# Altium schematic symbol library SCH - MCU - STM32 - ST MICROELECTRONICS STM32L496VGTXP LQFP100.SchLib: 1 symbol
Pins are listed as number, name and electrical type; pins without a type are passive.

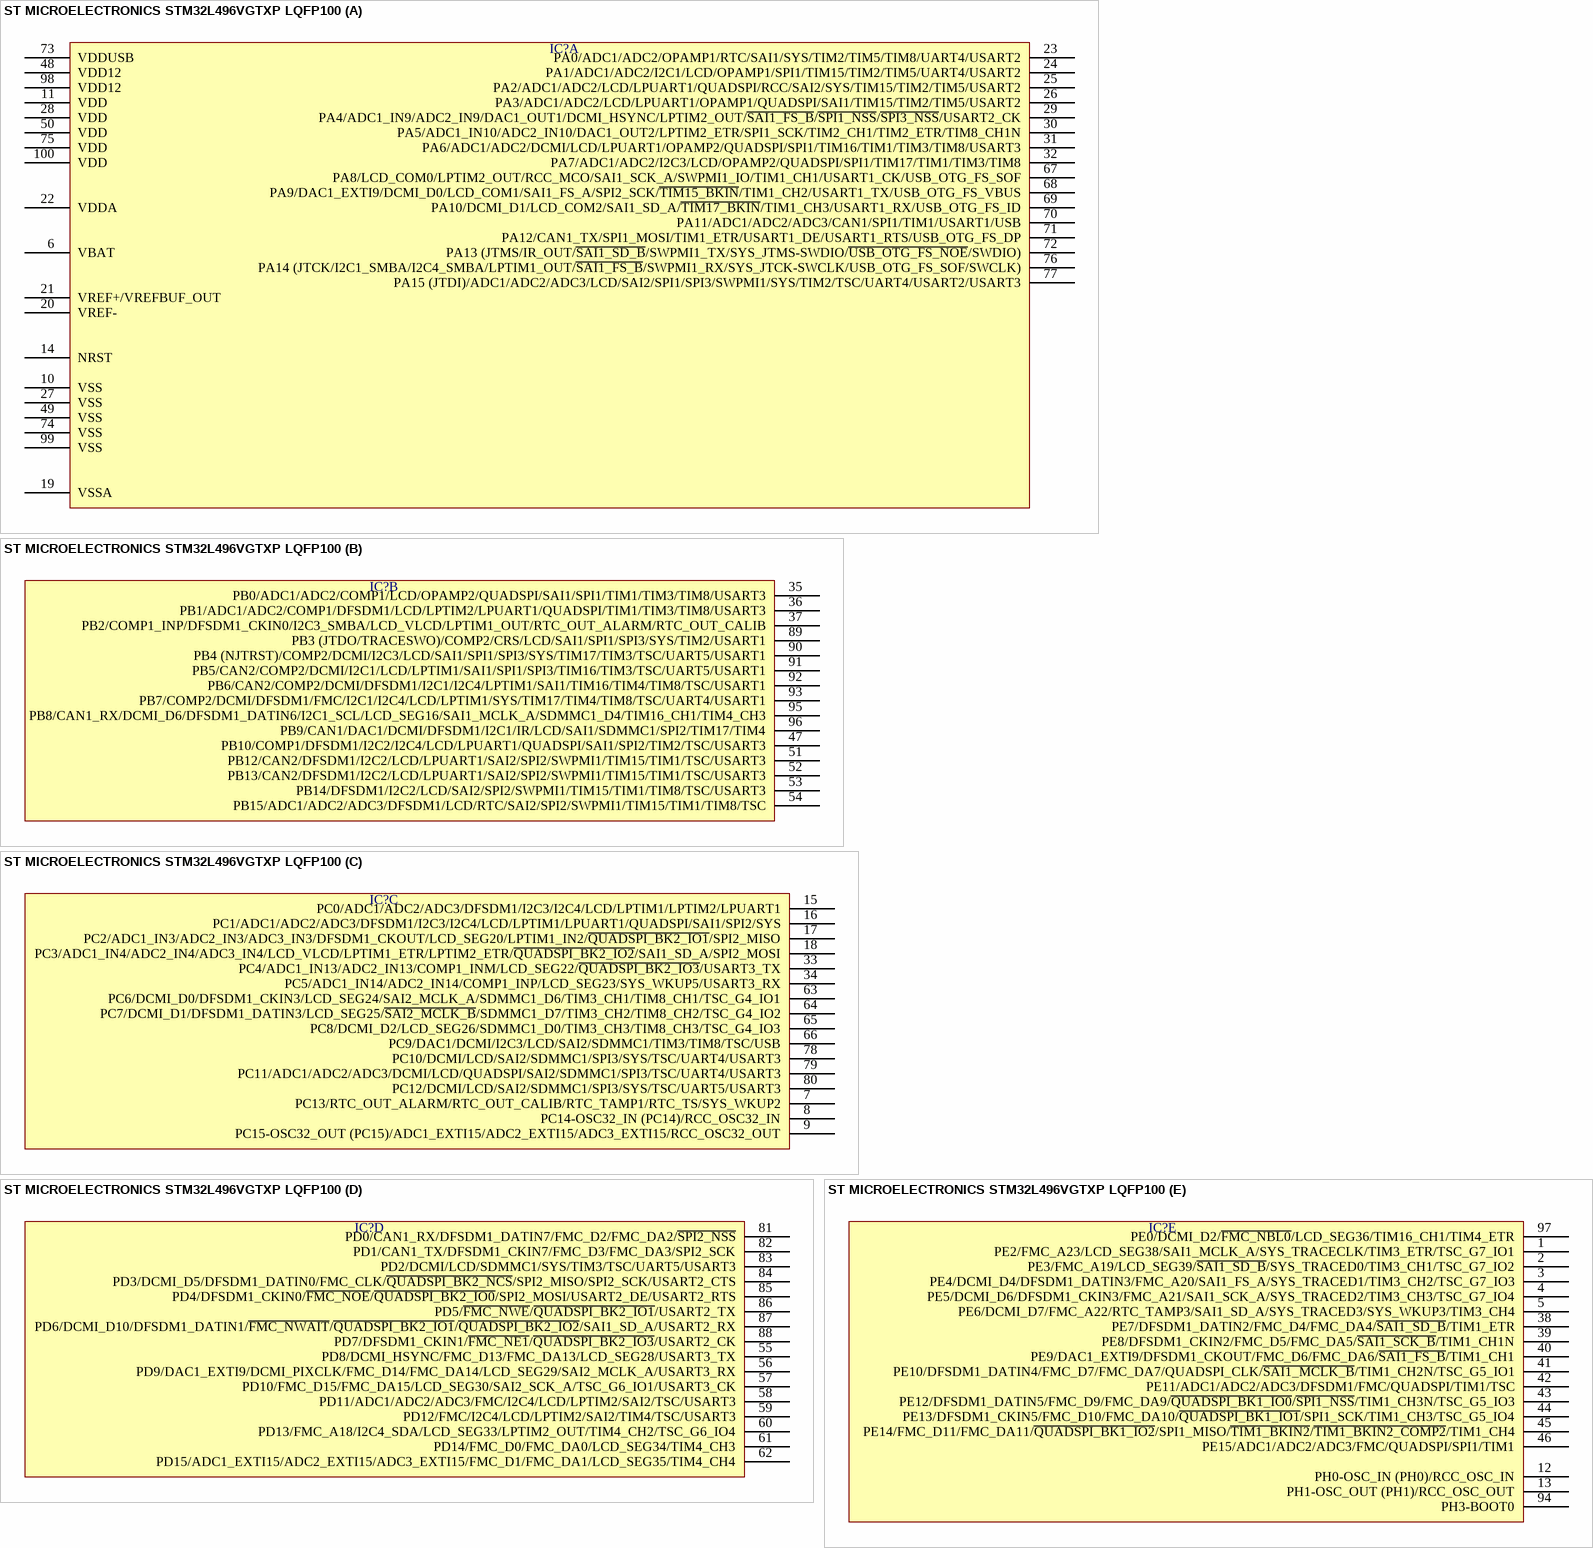
[diagram p0: symbol ST MICROELECTRONICS STM32L496VGTXP LQFP100]

## ST MICROELECTRONICS STM32L496VGTXP LQFP100
designator IC?  (value not drawn)
part A pins: 6 VBAT, 10 VSS, 11 VDD, 14 NRST, 19 VSSA, 20 VREF-, 21 VREF+/VREFBUF_OUT, 22 VDDA, 23 PA0/ADC1/ADC2/OPAMP1/RTC/SAI1/SYS/TIM2/TIM5/TIM8/UART4/USART2, 24 PA1/ADC1/ADC2/I2C1/LCD/OPAMP1/SPI1/TIM15/TIM2/TIM5/UART4/USART2, 25 PA2/ADC1/ADC2/LCD/LPUART1/QUADSPI/RCC/SAI2/SYS/TIM15/TIM2/TIM5/USART2, 26 PA3/ADC1/ADC2/LCD/LPUART1/OPAMP1/QUADSPI/SAI1/TIM15/TIM2/TIM5/USART2, 27 VSS, 28 VDD, 29 PA4/ADC1_IN9/ADC2_IN9/DAC1_OUT1/DCMI_HSYNC/LPTIM2_OUT/~{SAI1_FS_B}/~{SPI1_NSS}/~{SPI3_NSS}/USART2_CK, 30 PA5/ADC1_IN10/ADC2_IN10/DAC1_OUT2/LPTIM2_ETR/SPI1_SCK/TIM2_CH1/TIM2_ETR/TIM8_CH1N, 31 PA6/ADC1/ADC2/DCMI/LCD/LPUART1/OPAMP2/QUADSPI/SPI1/TIM16/TIM1/TIM3/TIM8/USART3, 32 PA7/ADC1/ADC2/I2C3/LCD/OPAMP2/QUADSPI/SPI1/TIM17/TIM1/TIM3/TIM8, 48 VDD12, 49 VSS, 50 VDD, 67 PA8/LCD_COM0/LPTIM2_OUT/RCC_MCO/SAI1_SCK_A/SWPMI1_IO/TIM1_CH1/USART1_CK/USB_OTG_FS_SOF, 68 PA9/DAC1_EXTI9/DCMI_D0/LCD_COM1/SAI1_FS_A/SPI2_SCK/~{TIM15_BKIN}/TIM1_CH2/USART1_TX/USB_OTG_FS_VBUS, 69 PA10/DCMI_D1/LCD_COM2/SAI1_SD_A/~{TIM17_BKIN}/TIM1_CH3/USART1_RX/USB_OTG_FS_ID, 70 PA11/ADC1/ADC2/ADC3/CAN1/SPI1/TIM1/USART1/USB, 71 PA12/CAN1_TX/SPI1_MOSI/TIM1_ETR/USART1_DE/USART1_RTS/USB_OTG_FS_DP, 72 PA13 (JTMS/IR_OUT/~{SAI1_SD_B}/SWPMI1_TX/SYS_JTMS-SWDIO/~{USB_OTG_FS_NOE}/SWDIO), 73 VDDUSB, 74 VSS, 75 VDD, 76 PA14 (JTCK/I2C1_SMBA/I2C4_SMBA/LPTIM1_OUT/~{SAI1_FS_B}/SWPMI1_RX/SYS_JTCK-SWCLK/USB_OTG_FS_SOF/SWCLK), 77 PA15 (JTDI)/ADC1/ADC2/ADC3/LCD/SAI2/SPI1/SPI3/SWPMI1/SYS/TIM2/TSC/UART4/USART2/USART3, 98 VDD12, 99 VSS, 100 VDD
part B pins: 35 PB0/ADC1/ADC2/COMP1/LCD/OPAMP2/QUADSPI/SAI1/SPI1/TIM1/TIM3/TIM8/USART3, 36 PB1/ADC1/ADC2/COMP1/DFSDM1/LCD/LPTIM2/LPUART1/QUADSPI/TIM1/TIM3/TIM8/USART3, 37 PB2/COMP1_INP/DFSDM1_CKIN0/I2C3_SMBA/LCD_VLCD/LPTIM1_OUT/RTC_OUT_ALARM/RTC_OUT_CALIB, 47 PB10/COMP1/DFSDM1/I2C2/I2C4/LCD/LPUART1/QUADSPI/SAI1/SPI2/TIM2/TSC/USART3, 51 PB12/CAN2/DFSDM1/I2C2/LCD/LPUART1/SAI2/SPI2/SWPMI1/TIM15/TIM1/TSC/USART3, 52 PB13/CAN2/DFSDM1/I2C2/LCD/LPUART1/SAI2/SPI2/SWPMI1/TIM15/TIM1/TSC/USART3, 53 PB14/DFSDM1/I2C2/LCD/SAI2/SPI2/SWPMI1/TIM15/TIM1/TIM8/TSC/USART3, 54 PB15/ADC1/ADC2/ADC3/DFSDM1/LCD/RTC/SAI2/SPI2/SWPMI1/TIM15/TIM1/TIM8/TSC, 89 PB3 (JTDO/TRACESWO)/COMP2/CRS/LCD/SAI1/SPI1/SPI3/SYS/TIM2/USART1, 90 PB4 (NJTRST)/COMP2/DCMI/I2C3/LCD/SAI1/SPI1/SPI3/SYS/TIM17/TIM3/TSC/UART5/USART1, 91 PB5/CAN2/COMP2/DCMI/I2C1/LCD/LPTIM1/SAI1/SPI1/SPI3/TIM16/TIM3/TSC/UART5/USART1, 92 PB6/CAN2/COMP2/DCMI/DFSDM1/I2C1/I2C4/LPTIM1/SAI1/TIM16/TIM4/TIM8/TSC/USART1, 93 PB7/COMP2/DCMI/DFSDM1/FMC/I2C1/I2C4/LCD/LPTIM1/SYS/TIM17/TIM4/TIM8/TSC/UART4/USART1, 95 PB8/CAN1_RX/DCMI_D6/DFSDM1_DATIN6/I2C1_SCL/LCD_SEG16/SAI1_MCLK_A/SDMMC1_D4/TIM16_CH1/TIM4_CH3, 96 PB9/CAN1/DAC1/DCMI/DFSDM1/I2C1/IR/LCD/SAI1/SDMMC1/SPI2/TIM17/TIM4
part C pins: 7 PC13/RTC_OUT_ALARM/RTC_OUT_CALIB/RTC_TAMP1/RTC_TS/SYS_WKUP2, 8 PC14-OSC32_IN (PC14)/RCC_OSC32_IN, 9 PC15-OSC32_OUT (PC15)/ADC1_EXTI15/ADC2_EXTI15/ADC3_EXTI15/RCC_OSC32_OUT, 15 PC0/ADC1/ADC2/ADC3/DFSDM1/I2C3/I2C4/LCD/LPTIM1/LPTIM2/LPUART1, 16 PC1/ADC1/ADC2/ADC3/DFSDM1/I2C3/I2C4/LCD/LPTIM1/LPUART1/QUADSPI/SAI1/SPI2/SYS, 17 PC2/ADC1_IN3/ADC2_IN3/ADC3_IN3/DFSDM1_CKOUT/LCD_SEG20/LPTIM1_IN2/~{QUADSPI_BK2_IO1}/SPI2_MISO, 18 PC3/ADC1_IN4/ADC2_IN4/ADC3_IN4/LCD_VLCD/LPTIM1_ETR/LPTIM2_ETR/~{QUADSPI_BK2_IO2}/SAI1_SD_A/SPI2_MOSI, 33 PC4/ADC1_IN13/ADC2_IN13/COMP1_INM/LCD_SEG22/~{QUADSPI_BK2_IO3}/USART3_TX, 34 PC5/ADC1_IN14/ADC2_IN14/COMP1_INP/LCD_SEG23/SYS_WKUP5/USART3_RX, 63 PC6/DCMI_D0/DFSDM1_CKIN3/LCD_SEG24/SAI2_MCLK_A/SDMMC1_D6/TIM3_CH1/TIM8_CH1/TSC_G4_IO1, 64 PC7/DCMI_D1/DFSDM1_DATIN3/LCD_SEG25/~{SAI2_MCLK_B}/SDMMC1_D7/TIM3_CH2/TIM8_CH2/TSC_G4_IO2, 65 PC8/DCMI_D2/LCD_SEG26/SDMMC1_D0/TIM3_CH3/TIM8_CH3/TSC_G4_IO3, 66 PC9/DAC1/DCMI/I2C3/LCD/SAI2/SDMMC1/TIM3/TIM8/TSC/USB, 78 PC10/DCMI/LCD/SAI2/SDMMC1/SPI3/SYS/TSC/UART4/USART3, 79 PC11/ADC1/ADC2/ADC3/DCMI/LCD/QUADSPI/SAI2/SDMMC1/SPI3/TSC/UART4/USART3, 80 PC12/DCMI/LCD/SAI2/SDMMC1/SPI3/SYS/TSC/UART5/USART3
part D pins: 55 PD8/DCMI_HSYNC/FMC_D13/FMC_DA13/LCD_SEG28/USART3_TX, 56 PD9/DAC1_EXTI9/DCMI_PIXCLK/FMC_D14/FMC_DA14/LCD_SEG29/SAI2_MCLK_A/USART3_RX, 57 PD10/FMC_D15/FMC_DA15/LCD_SEG30/SAI2_SCK_A/TSC_G6_IO1/USART3_CK, 58 PD11/ADC1/ADC2/ADC3/FMC/I2C4/LCD/LPTIM2/SAI2/TSC/USART3, 59 PD12/FMC/I2C4/LCD/LPTIM2/SAI2/TIM4/TSC/USART3, 60 PD13/FMC_A18/I2C4_SDA/LCD_SEG33/LPTIM2_OUT/TIM4_CH2/TSC_G6_IO4, 61 PD14/FMC_D0/FMC_DA0/LCD_SEG34/TIM4_CH3, 62 PD15/ADC1_EXTI15/ADC2_EXTI15/ADC3_EXTI15/FMC_D1/FMC_DA1/LCD_SEG35/TIM4_CH4, 81 PD0/CAN1_RX/DFSDM1_DATIN7/FMC_D2/FMC_DA2/~{SPI2_NSS}, 82 PD1/CAN1_TX/DFSDM1_CKIN7/FMC_D3/FMC_DA3/SPI2_SCK, 83 PD2/DCMI/LCD/SDMMC1/SYS/TIM3/TSC/UART5/USART3, 84 PD3/DCMI_D5/DFSDM1_DATIN0/FMC_CLK/~{QUADSPI_BK2_NCS}/SPI2_MISO/SPI2_SCK/USART2_CTS, 85 PD4/DFSDM1_CKIN0/~{FMC_NOE}/~{QUADSPI_BK2_IO0}/SPI2_MOSI/USART2_DE/USART2_RTS, 86 PD5/~{FMC_NWE}/~{QUADSPI_BK2_IO1}/USART2_TX, 87 PD6/DCMI_D10/DFSDM1_DATIN1/~{FMC_NWAIT}/~{QUADSPI_BK2_IO1}/~{QUADSPI_BK2_IO2}/SAI1_SD_A/USART2_RX, 88 PD7/DFSDM1_CKIN1/~{FMC_NE1}/~{QUADSPI_BK2_IO3}/USART2_CK
part E pins: 1 PE2/FMC_A23/LCD_SEG38/SAI1_MCLK_A/SYS_TRACECLK/TIM3_ETR/TSC_G7_IO1, 2 PE3/FMC_A19/LCD_SEG39/~{SAI1_SD_B}/SYS_TRACED0/TIM3_CH1/TSC_G7_IO2, 3 PE4/DCMI_D4/DFSDM1_DATIN3/FMC_A20/SAI1_FS_A/SYS_TRACED1/TIM3_CH2/TSC_G7_IO3, 4 PE5/DCMI_D6/DFSDM1_CKIN3/FMC_A21/SAI1_SCK_A/SYS_TRACED2/TIM3_CH3/TSC_G7_IO4, 5 PE6/DCMI_D7/FMC_A22/RTC_TAMP3/SAI1_SD_A/SYS_TRACED3/SYS_WKUP3/TIM3_CH4, 12 PH0-OSC_IN (PH0)/RCC_OSC_IN, 13 PH1-OSC_OUT (PH1)/RCC_OSC_OUT, 38 PE7/DFSDM1_DATIN2/FMC_D4/FMC_DA4/~{SAI1_SD_B}/TIM1_ETR, 39 PE8/DFSDM1_CKIN2/FMC_D5/FMC_DA5/~{SAI1_SCK_B}/TIM1_CH1N, 40 PE9/DAC1_EXTI9/DFSDM1_CKOUT/FMC_D6/FMC_DA6/~{SAI1_FS_B}/TIM1_CH1, 41 PE10/DFSDM1_DATIN4/FMC_D7/FMC_DA7/QUADSPI_CLK/~{SAI1_MCLK_B}/TIM1_CH2N/TSC_G5_IO1, 42 PE11/ADC1/ADC2/ADC3/DFSDM1/FMC/QUADSPI/TIM1/TSC, 43 PE12/DFSDM1_DATIN5/FMC_D9/FMC_DA9/~{QUADSPI_BK1_IO0}/~{SPI1_NSS}/TIM1_CH3N/TSC_G5_IO3, 44 PE13/DFSDM1_CKIN5/FMC_D10/FMC_DA10/~{QUADSPI_BK1_IO1}/SPI1_SCK/TIM1_CH3/TSC_G5_IO4, 45 PE14/FMC_D11/FMC_DA11/~{QUADSPI_BK1_IO2}/SPI1_MISO/~{TIM1_BKIN2}/~{TIM1_BKIN2_COMP2}/TIM1_CH4, 46 PE15/ADC1/ADC2/ADC3/FMC/QUADSPI/SPI1/TIM1, 94 PH3-BOOT0, 97 PE0/DCMI_D2/~{FMC_NBL0}/LCD_SEG36/TIM16_CH1/TIM4_ETR